# EAGLE library part BQ25302 (library pimoroni-ics)
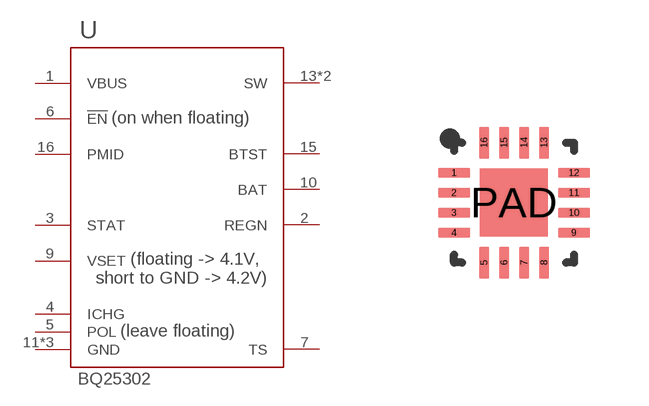
[diagram p182: symbol with the pads of QFN-16; footprint QFN-16]

Designator prefix U

## BQ25302  [QFN-16]
1  VBUS  pwr
2  REGN  pwr
3  STAT  oc
4  ICHG
5  POL  in
6  !EN
7  TS  in
9  VSET  in
10  BAT  pwr
11  GND  pwr
12  GND  pwr
13  SW  pwr
14  SW  pwr
15  BTST  pwr
16  PMID  out
PAD  GND  pwr

## Footprint QFN-16 (pad centres in mm)
smd 0.8 x 0.25: 1 -1.5,0.75; 2 -1.5,0.25; 3 -1.5,-0.25; 4 -1.5,-0.75; 9 1.5,-0.75; 10 1.5,-0.25; 11 1.5,0.25; 12 1.5,0.75
smd 0.25 x 0.8: 5 -0.75,-1.5; 6 -0.25,-1.5; 7 0.25,-1.5; 8 0.75,-1.5; 13 0.75,1.5; 14 0.25,1.5; 15 -0.25,1.5; 16 -0.75,1.5
smd 1.7 x 1.7: PAD 0,0